# EAGLE library part STM8S103F3P6 (library STM8S103F3P6)
Mainstream Access line 8-bit MCU with 8 Kbytes Flash, 16 MHz CPU, integrated EEPROM Check availability <https://punoscho.in/product/st8s103f3p6-8-bit-microcontroller/>
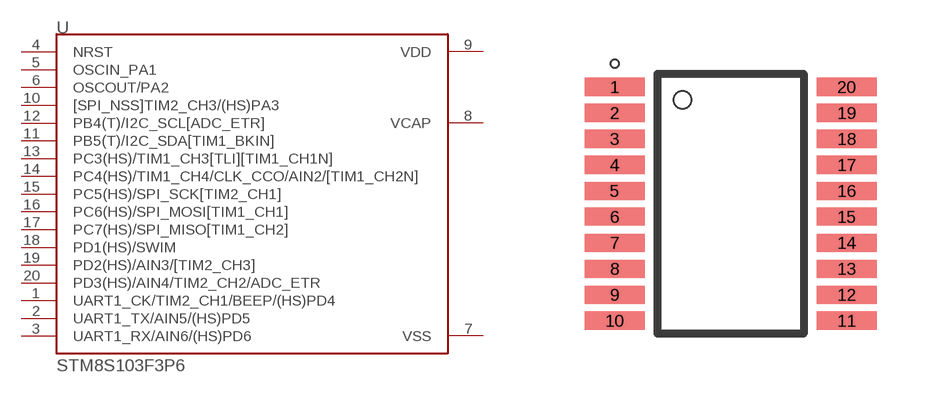
[diagram p0: symbol with the pads of SOP65P640X120-20N; footprint SOP65P640X120-20N]

Designator prefix U

## STM8S103F3P6 (DESCRIPTION: STM8 series Microcontroller IC 8-Bit 16MHz 8KB (8K x 8) FLASH 20-TSSOP; MFR: STMicroelectronics; MFR-PN: STM8S103F3P6; PACKAGE: TSSOP-20 STMicroelectronics; SUPPLIER: Punoscho.in; SUPPLIER-PN: PU-131)  [SOP65P640X120-20N]
1  UART1_CK/TIM2_CH1/BEEP/(HS)PD4
2  UART1_TX/AIN5/(HS)PD5
3  UART1_RX/AIN6/(HS)PD6
4  NRST
5  OSCIN_PA1
6  OSCOUT/PA2
7  VSS  pwr
8  VCAP  pas
9  VDD  pwr
10  [SPI_NSS]TIM2_CH3/(HS)PA3
11  PB5(T)/I2C_SDA[TIM1_BKIN]
12  PB4(T)/I2C_SCL[ADC_ETR]
13  PC3(HS)/TIM1_CH3[TLI][TIM1_CH1N]
14  PC4(HS)/TIM1_CH4/CLK_CCO/AIN2/[TIM1_CH2N]
15  PC5(HS)/SPI_SCK[TIM2_CH1]
16  PC6(HS)/SPI_MOSI[TIM1_CH1]
17  PC7(HS)/SPI_MISO[TIM1_CH2]
18  PD1(HS)/SWIM
19  PD2(HS)/AIN3/[TIM2_CH3]
20  PD3(HS)/AIN4/TIM2_CH2/ADC_ETR

## Footprint SOP65P640X120-20N (pad centres in mm)
smd 1.5 x 0.45: 1 -2.9,2.925; 2 -2.9,2.275; 3 -2.9,1.625; 4 -2.9,0.975; 5 -2.9,0.325; 6 -2.9,-0.325; 7 -2.9,-0.975; 8 -2.9,-1.625; 9 -2.9,-2.275; 10 -2.9,-2.925; 11 2.9,-2.925; 12 2.9,-2.275; 13 2.9,-1.625; 14 2.9,-0.975; 15 2.9,-0.325; 16 2.9,0.325; 17 2.9,0.975; 18 2.9,1.625; 19 2.9,2.275; 20 2.9,2.925